# EAGLE library part STP16DPP05PTR (library ST Microelectronics)
LED sink driver
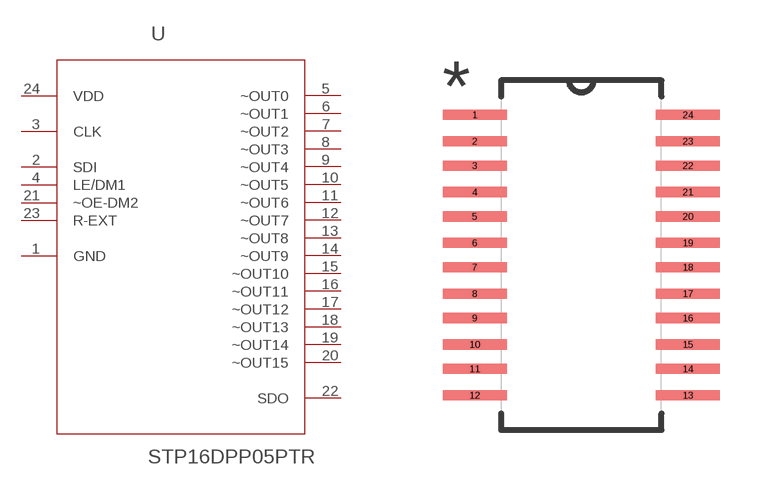
[diagram p375: symbol with the pads of SOP63P600X173-24N; footprint SOP63P600X173-24N]

Designator prefix U

## STP16DPP05PTR (MPN: STP16DPP05PTR; OC_FARNELL: -; OC_NEWARK: 55R7002; PACKAGE: QSOP-24; SUPPLIER: STMICROELECTRONICS)  [SOP63P600X173-24N]
1  GND  pas
2  SDI  in
3  CLK  in
4  LE/DM1  in
5  ~OUT0  out
6  ~OUT1  out
7  ~OUT2  out
8  ~OUT3  out
9  ~OUT4  out
10  ~OUT5  out
11  ~OUT6  out
12  ~OUT7  out
13  ~OUT8  out
14  ~OUT9  out
15  ~OUT10  out
16  ~OUT11  out
17  ~OUT12  out
18  ~OUT13  out
19  ~OUT14  out
20  ~OUT15  out
21  ~OE-DM2  in
22  SDO  out
23  R-EXT  in
24  VDD  pwr

## Footprint SOP63P600X173-24N (pad centres in mm)
smd 1.6 x 0.254: 1 -2.667,3.505; 2 -2.667,2.845; 3 -2.667,2.235; 4 -2.667,1.575; 5 -2.667,0.965; 6 -2.667,0.305; 7 -2.667,-0.305; 8 -2.667,-0.965; 9 -2.667,-1.575; 10 -2.667,-2.235; 11 -2.667,-2.845; 12 -2.667,-3.505; 13 2.667,-3.505; 14 2.667,-2.845; 15 2.667,-2.235; 16 2.667,-1.575; 17 2.667,-0.965; 18 2.667,-0.305; 19 2.667,0.305; 20 2.667,0.965; 21 2.667,1.575; 22 2.667,2.235; 23 2.667,2.845; 24 2.667,3.505